# Altium footprint library Switch-Slide.PcbLib: 14 footprints
Each footprint in its own frame and in the unit in brackets; x right, y up, seen from the top. Pads: shape width x height; smd on the part's side, far side on the other; paste and mask are expansions set on the pad; w line width, h text height; cw(c..) or ccw(c..) is an arc to the next point about the centre after c.
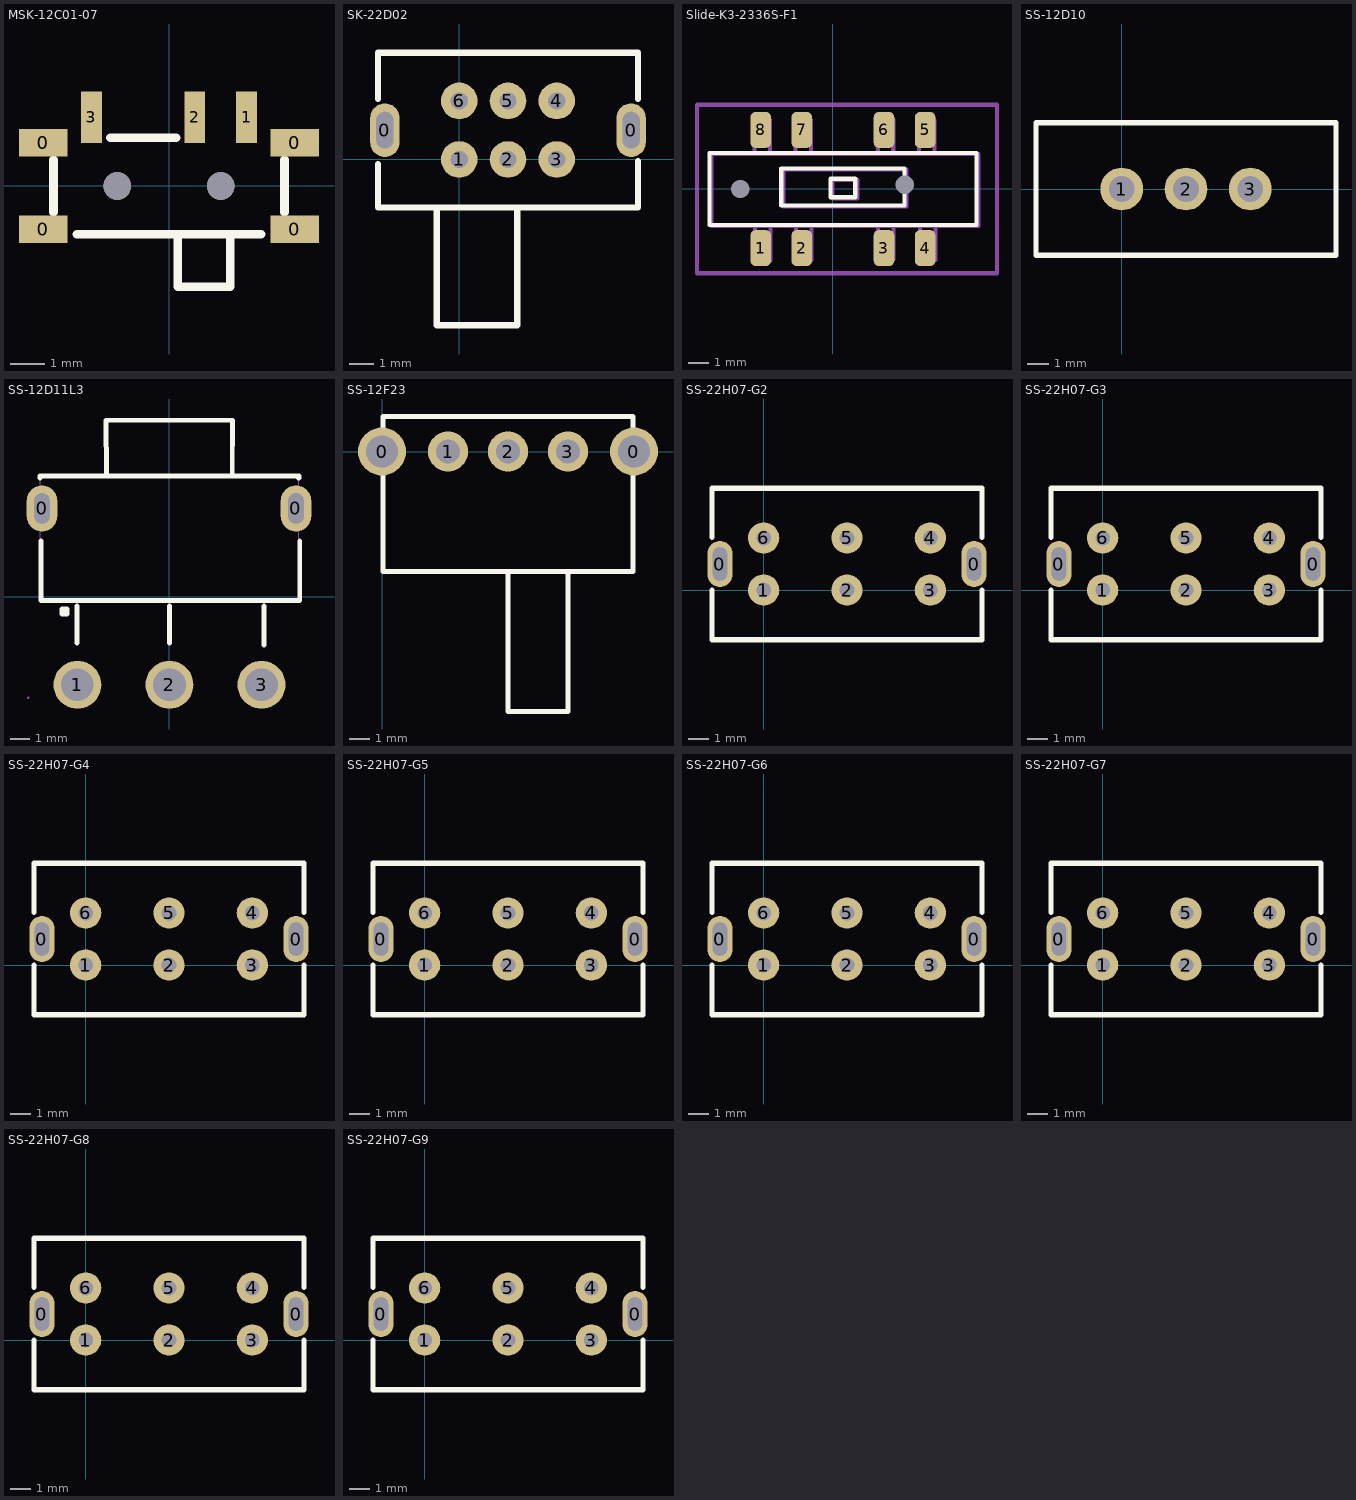
[diagram p0: the footprints below, top view; thin cyan lines are the x and y axes]

## MSK-12C01-07 [mm]
pads (9):
  rect 1.4x0.8 smd: 0(-3.65,-1.25) 0(-3.65,1.25) 0(3.65,-1.25) 0(3.65,1.25)
  rect 0.6x1.5 smd: 1(2.25,1.996) 2(0.75,1.996) 3(-2.25,1.996)
  round 0.8 hole 0.8: " "(-1.5,0) " "(1.5,0)
Top Overlay:
  lines w0.254: -3.35,-0.762 -3.35,0.762 ; -2.667,-1.397 2.667,-1.397 ; -1.699,1.397 0.206,1.397 ; 0.254,-1.4 0.254,-2.921 1.778,-2.921 1.778,-1.4 ; 3.35,-0.762 3.35,0.762
3D body "MSK-12C01-07.STEP": height 1.5, standoff -0.5, extent -3.92,-2.887 3.92,2.413

## SK-22D02 [mm]
pads (8):
  oval 1.2x2.2 hole 0.7 slot 1.5 at 90 deg: 0(-3.05,1.2) 0(7.05,1.2)
  round 1.5 hole 0.7: 1(0,0) 2(2,0) 3(4,0) 4(4,2.4) 5(2,2.4) 6(0,2.4)
Top Overlay:
  lines w0.25: -3.334,-0.197 -3.334,-1.975 7.334,-1.975 7.334,-0.07 ; -3.334,2.47 -3.334,4.375 7.334,4.375 7.334,2.47 ; -0.921,-1.975 -0.921,-6.801 2.381,-6.801 2.381,-1.975
3D body "SK-22D02.STEP": height 5.59, standoff -2.61, extent -3.355,-6.692 7.165,4.318

## Slide-K3-2336S-F1 [mm] "DP3T 滑动开关"
pads (10):
  round 0 hole 0.9 unplated mask+0.102: 0(-4.5,0) 0(3.5,0.208)
  rrect50% 1x1.75 smd: 1(-3.5,-2.875) 2(-1.5,-2.875) 3(2.5,-2.875) 4(4.5,-2.875) 5(4.5,2.875) 6(2.5,2.875) 7(-1.5,2.875) 8(-3.5,2.875)
Top Overlay:
  lines w0.2: -6,-1.75 -6,1.75 7,1.75 7,-1.75 -6,-1.75 ; -2.5,-0.8 3.5,-0.8 3.5,1 -2.5,1 -2.5,-0.8 ; -0.1,-0.4 1.1,-0.4 1.1,0.5 -0.1,0.5 -0.1,-0.4
Top Component Outline:
  lines w0.2: -3.8,1.75 -3.8,3.35 -3.048,3.35 -3.048,1.757 ; -3.782,-1.891 -3.782,-3.484 -3.03,-3.484 -3.03,-1.884 ; -1.8,1.75 -1.8,3.35 -1.048,3.35 -1.048,1.757 ; -1.785,-1.863 -1.785,-3.456 -1.032,-3.456 -1.032,-1.856 ; 2.2,1.75 2.2,3.35 2.952,3.35 2.952,1.757 ; 2.217,-1.832 2.217,-3.425 2.97,-3.425 2.97,-1.825 ; 4.2,1.75 4.2,3.35 4.952,3.35 4.952,1.757 ; 4.248,-1.857 4.248,-3.45 5,-3.45 5,-1.85 ; -5.9,-1.8 -5.9,1.7 7.1,1.7 7.1,-1.8 -5.9,-1.8 ; -2.4,-0.85 3.6,-0.85 3.6,0.95 -2.4,0.95 -2.4,-0.85 ; 0,-0.45 1.2,-0.45 1.2,0.45 0,0.45 0,-0.45
Top Value:
  text "'.Comment'" at -4.314,-0.581 h2
Top Designator:
  text "'.Designator'" at -5.721,-0.419 h2
Top Courtyard:
  lines w0.2: -6.6,-4.1 -6.6,4.1 8,4.1 8,-4.1 -6.6,-4.1
3D body "ss-3336s-02-l1.stp": height 5.15, standoff 0, extent -6.063,-3.596 6.937,3.504

## SS-12D10 [mm]
pads (3):
  round 2 hole 1.2: 1(0,0) 2(3,0) 3(6,0)
Top Overlay:
  lines w0.254: -4,-3.1 -4,3.1 10,3.1 10,-3.1 -4,-3.1
3D body "SS-12D10.STEP": height 9.65, standoff -2.6, extent -3.952,-3.152 10.048,3.048

## SS-12D11L3 [mm] "C843366"
pads (5):
  oval 1.6x2.4 hole 0.8 slot 1.6 at 90 deg mask+0.051: 0(-6.65,4.6) 0(6.6,4.6)
  round 2.499 hole 1.699 mask+0.051: 1(-4.801,-4.6) 2(0,-4.6) 3(4.801,-4.6)
Top Overlay:
  lines w0.254: -6.759,6.242 -6.758,6.178 ; -6.749,6.178 -6.749,6.3 6.749,6.3 6.749,6.178 ; -6.7,2.9 -6.7,-0.2 6.798,-0.2 6.798,2.9 ; -4.826,-2.419 -4.826,-0.5 ; -3.287,6.409 -3.307,9.2 3.293,9.2 3.277,6.427 ; 0,-2.419 0,-0.5 ; 4.926,-2.519 4.926,-0.5 ; 6.731,6.178 6.731,6.209 ; -5.6,-0.9 -5.6,-0.646 -5.346,-0.646 -5.346,-0.9 -5.6,-0.9
Top Component Center:
  circle w0.249: c-5.715,-4.643 r0.124
Top Value:
  text "'.Comment'" at -8.537,3.237 h4
Top Designator:
  text "'.Designator'" at -10.9,3.3 h4
Top Assembly (Mech20):
  region: -7.305,-5.278 -7.305,-5.253 -7.341,-5.217 -7.391,-5.217 -7.427,-5.253 -7.427,-5.278 -7.427,-5.303 -7.391,-5.339 -7.341,-5.339 -7.305,-5.303 -7.305,-5.278
  region: 7.275,4.6 7.275,4.724 7.179,4.954 7.004,5.13 6.774,5.225 6.525,5.225 6.296,5.13 6.12,4.954 6.025,4.724 6.025,4.6 6.025,4.476 6.12,4.246 6.296,4.07 6.525,3.975 6.774,3.975 7.004,4.07 7.179,4.246 7.275,4.476 7.275,4.6
  region: -6.025,4.6 -6.025,4.724 -6.12,4.954 -6.296,5.13 -6.525,5.225 -6.774,5.225 -7.004,5.13 -7.179,4.954 -7.275,4.724 -7.275,4.6 -7.275,4.476 -7.179,4.246 -7.004,4.07 -6.774,3.975 -6.525,3.975 -6.296,4.07 -6.12,4.246 -6.025,4.476 -6.025,4.6
  region: 5.451,-4.6 5.451,-4.514 5.407,-4.349 5.321,-4.201 5.2,-4.08 5.052,-3.994 4.886,-3.95 4.715,-3.95 4.55,-3.994 4.401,-4.08 4.28,-4.201 4.195,-4.349 4.15,-4.514 4.15,-4.6 4.15,-4.686 4.195,-4.851 4.28,-4.999 4.401,-5.12 4.55,-5.206 4.715,-5.25 4.886,-5.25 5.052,-5.206 5.2,-5.12 5.321,-4.999 5.407,-4.851 5.451,-4.686 5.451,-4.6
  region: 0.65,-4.6 0.65,-4.514 0.606,-4.349 0.52,-4.201 0.399,-4.08 0.251,-3.994 0.086,-3.95 -0.086,-3.95 -0.251,-3.994 -0.399,-4.08 -0.52,-4.201 -0.606,-4.349 -0.65,-4.514 -0.65,-4.6 -0.65,-4.686 -0.606,-4.851 -0.52,-4.999 -0.399,-5.12 -0.251,-5.206 -0.086,-5.25 0.086,-5.25 0.251,-5.206 0.399,-5.12 0.52,-4.999 0.606,-4.851 0.65,-4.686 0.65,-4.6
  region: -4.15,-4.6 -4.15,-4.514 -4.195,-4.349 -4.28,-4.201 -4.401,-4.08 -4.55,-3.994 -4.715,-3.95 -4.886,-3.95 -5.052,-3.994 -5.2,-4.08 -5.321,-4.201 -5.407,-4.349 -5.451,-4.514 -5.451,-4.6 -5.451,-4.686 -5.407,-4.851 -5.321,-4.999 -5.2,-5.12 -5.052,-5.206 -4.886,-5.25 -4.715,-5.25 -4.55,-5.206 -4.401,-5.12 -4.28,-4.999 -4.195,-4.851 -4.15,-4.686 -4.15,-4.6
  lines w0.051: -6.749,-0.2 -6.749,6.25 -3.251,6.25 -3.251,9.25 3.251,9.25 3.251,6.25 6.749,6.25 6.749,-0.2 -6.749,-0.2
3D body "SS-12D11L3.stp": height 6.69, standoff -3.11, extent -6.75,-5.3 6.75,9.15

## SS-12F23 [mm]
pads (5):
  round 2.4 hole 1.6: 0(0,0) 0(12.6,0)
  round 2 hole 1.2: 1(3.3,0) 2(6.3,0) 3(9.3,0)
Top Overlay:
  lines w0.254: 6.3,-6 6.3,-13 9.3,-13 9.3,-6 ; 0.05,-6 12.55,-6 12.55,0 12.55,1.5 12.55,1.75 0.05,1.75 0.05,0 0.05,-6
3D body "SS-12F23.STEP": height 5.75, standoff -3.35, extent -0.144,-12.265 12.856,0.635

## SS-22H07-G2 [mm]
pads (8):
  oval 1.2x2.2 hole 0.7 slot 1.6 at 90 deg: 0(-2.1,1.25) 0(10.1,1.25)
  round 1.5 hole 0.7: 1(0,0) 2(4,0) 3(8,0) 4(8,2.5) 5(4,2.5) 6(0,2.5)
Top Overlay:
  lines w0.25: -2.477,0 -2.477,-2.382 10.477,-2.382 10.477,0 ; -2.477,2.52 -2.477,4.882 10.477,4.882 10.477,2.52
3D body "SS-22H07-G2.STEP": height 6.7, standoff -3.3, extent -2.287,-2.286 10.415,4.716

## SS-22H07-G3 [mm]
pads (8):
  oval 1.2x2.2 hole 0.7 slot 1.6 at 90 deg: 0(-2.1,1.25) 0(10.1,1.25)
  round 1.5 hole 0.7: 1(0,0) 2(4,0) 3(8,0) 4(8,2.5) 5(4,2.5) 6(0,2.5)
Top Overlay:
  lines w0.25: -2.477,0 -2.477,-2.382 10.477,-2.382 10.477,0 ; -2.477,2.52 -2.477,4.882 10.477,4.882 10.477,2.52
3D body "SS-22H07-G3.STEP": height 7.7, standoff -3.3, extent -2.415,-2.231 10.287,4.771

## SS-22H07-G4 [mm]
pads (8):
  oval 1.2x2.2 hole 0.7 slot 1.6 at 90 deg: 0(-2.1,1.25) 0(10.1,1.25)
  round 1.5 hole 0.7: 1(0,0) 2(4,0) 3(8,0) 4(8,2.5) 5(4,2.5) 6(0,2.5)
Top Overlay:
  lines w0.25: -2.477,0 -2.477,-2.382 10.477,-2.382 10.477,0 ; -2.477,2.52 -2.477,4.882 10.477,4.882 10.477,2.52
3D body "SS-22H07-G4.STEP": height 8.7, standoff -3.3, extent -2.286,-2.231 10.416,4.771

## SS-22H07-G5 [mm]
pads (8):
  oval 1.2x2.2 hole 0.7 slot 1.6 at 90 deg: 0(-2.1,1.25) 0(10.1,1.25)
  round 1.5 hole 0.7: 1(0,0) 2(4,0) 3(8,0) 4(8,2.5) 5(4,2.5) 6(0,2.5)
Top Overlay:
  lines w0.25: -2.477,0 -2.477,-2.382 10.477,-2.382 10.477,0 ; -2.477,2.52 -2.477,4.882 10.477,4.882 10.477,2.52
3D body "SS-22H07-G5.STEP": height 9.7, standoff -3.3, extent -2.414,-2.286 10.288,4.716

## SS-22H07-G6 [mm]
pads (8):
  oval 1.2x2.2 hole 0.7 slot 1.6 at 90 deg: 0(-2.1,1.25) 0(10.1,1.25)
  round 1.5 hole 0.7: 1(0,0) 2(4,0) 3(8,0) 4(8,2.5) 5(4,2.5) 6(0,2.5)
Top Overlay:
  lines w0.25: -2.477,0 -2.477,-2.382 10.477,-2.382 10.477,0 ; -2.477,2.52 -2.477,4.882 10.477,4.882 10.477,2.52
3D body "SS-22H07-G6.STEP": height 10.7, standoff -3.3, extent -2.414,-2.231 10.288,4.771

## SS-22H07-G7 [mm]
pads (8):
  oval 1.2x2.2 hole 0.7 slot 1.6 at 90 deg: 0(-2.1,1.25) 0(10.1,1.25)
  round 1.5 hole 0.7: 1(0,0) 2(4,0) 3(8,0) 4(8,2.5) 5(4,2.5) 6(0,2.5)
Top Overlay:
  lines w0.25: -2.477,0 -2.477,-2.382 10.477,-2.382 10.477,0 ; -2.477,2.52 -2.477,4.882 10.477,4.882 10.477,2.52
3D body "SS-22H07-G7.STEP": height 11.7, standoff -3.3, extent -2.287,-2.286 10.415,4.716

## SS-22H07-G8 [mm]
pads (8):
  oval 1.2x2.2 hole 0.7 slot 1.6 at 90 deg: 0(-2.1,1.25) 0(10.1,1.25)
  round 1.5 hole 0.7: 1(0,0) 2(4,0) 3(8,0) 4(8,2.5) 5(4,2.5) 6(0,2.5)
Top Overlay:
  lines w0.25: -2.477,0 -2.477,-2.382 10.477,-2.382 10.477,0 ; -2.477,2.52 -2.477,4.882 10.477,4.882 10.477,2.52
3D body "SS-22H07-G8.STEP": height 12.7, standoff -3.3, extent -2.286,-2.231 10.416,4.771

## SS-22H07-G9 [mm]
pads (8):
  oval 1.2x2.2 hole 0.7 slot 1.6 at 90 deg: 0(-2.1,1.25) 0(10.1,1.25)
  round 1.5 hole 0.7: 1(0,0) 2(4,0) 3(8,0) 4(8,2.5) 5(4,2.5) 6(0,2.5)
Top Overlay:
  lines w0.25: -2.477,0 -2.477,-2.382 10.477,-2.382 10.477,0 ; -2.477,2.52 -2.477,4.882 10.477,4.882 10.477,2.52
3D body "SS-22H07-G9.STEP": height 13.7, standoff -3.3, extent -2.414,-2.231 10.288,4.771